# Altium footprint library rs-485.PcbLib: 3 footprints
Each footprint in its own frame and in the unit in brackets; x right, y up, seen from the top. Pads: shape width x height; smd on the part's side, far side on the other; paste and mask are expansions set on the pad; w line width, h text height; cw(c..) or ccw(c..) is an arc to the next point about the centre after c.
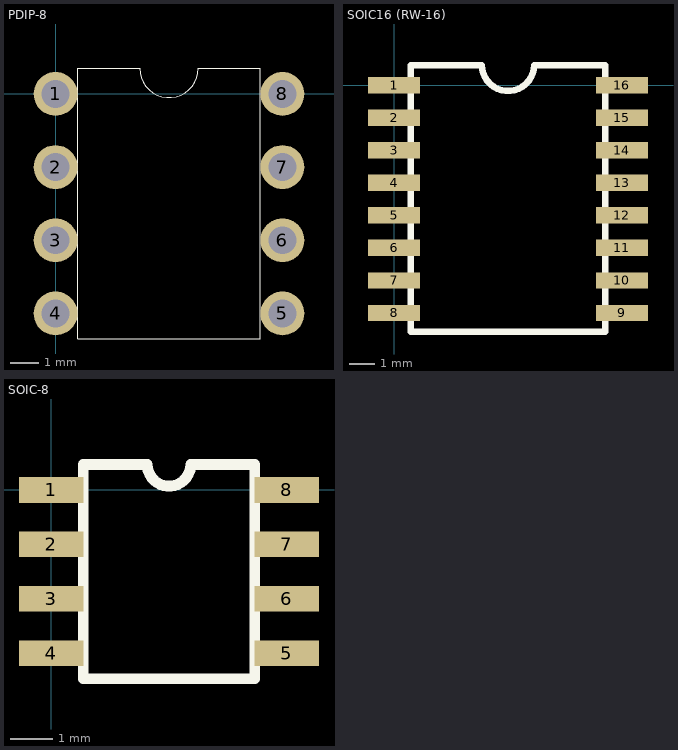
[diagram p0: the footprints below, top view; thin cyan lines are the x and y axes]

## PDIP-8 [mil]
pads (8):
  round 60 hole 38: 1(0,0) 2(0,-100) 3(0,-200) 4(0,-300) 5(310,-300) 6(310,-200) 7(310,-100) 8(310,0)
Top Overlay:
  lines w1: 30,-335 280,-335 280,35 195,35 cw(c155,35) 115,35 30,35 30,-335
3D body "CircuitWorks-DIP8.step": height 165, standoff -105, extent 0,-375 310,75

## SOIC16 (RW-16) [mil]
pads (16):
  rect 80x25 smd: 1(0,0) 2(0,-50) 3(0,-100) 4(0,-150) 5(0,-200) 6(0,-250) 7(0,-300) 8(0,-350) 9(350,-350) 10(350,-300) 11(350,-250) 12(350,-200) 13(350,-150) 14(350,-100) 15(350,-50) 16(350,0)
Top Overlay:
  lines w10: 25.4,-378.93 324.6,-378.93 ; 25.4,-378.54 25.4,30.9 135,30.9 ccw(c175,30.9) 215,30.9 324.6,30.9 324.6,-378.54
3D body "User Library-so16w.step": height 137.8, standoff 0, extent -27.75,-375.78 377.76,25.79

## SOIC-8 [mm]
pads (8):
  rect 1.5x0.6 smd: 1(0,0) 2(0,-1.27) 3(0,-2.54) 4(0,-3.81) 5(5.5,-3.81) 6(5.5,-2.54) 7(5.5,-1.27) 8(5.5,0)
Top Overlay:
  lines w0.254: 0.75,-4.405 0.75,0.595 2.242,0.595 ccw(c2.75,0.595) 3.258,0.595 4.75,0.595 4.75,-4.405 0.75,-4.405
3D body "User Library-SOIC-8-1.step": height 1.75, standoff 0, extent -0.206,-4.355 5.794,0.545